# EAGLE library part 74AHC573 (library Labor)
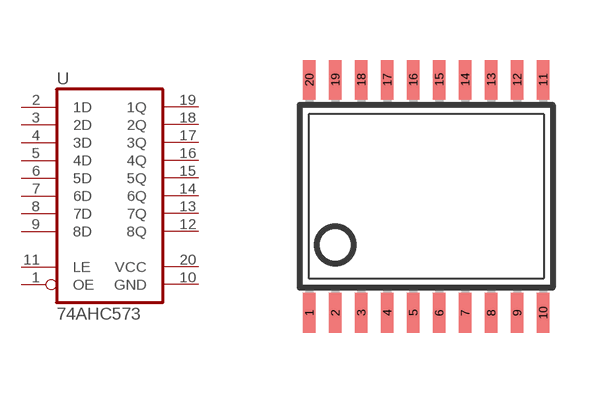
[diagram p12: symbol with the pads of TSSOP20; footprint TSSOP20]

Designator prefix -

## 74AHC573  [TSSOP20]
1  OE  in
2  1D  in
3  2D  in
4  3D  in
5  4D  in
6  5D  in
7  6D  in
8  7D  in
9  8D  in
10  GND
11  LE  in
12  8Q  hiz
13  7Q  hiz
14  6Q  hiz
15  5Q  hiz
16  4Q  hiz
17  3Q  hiz
18  2Q  hiz
19  1Q  hiz
20  VCC

## Footprint TSSOP20 (pad centres in mm)
Thin Shrink Small Outline Plastic 20 MAX3223-MAX3243.pdf
smd 0.305 x 0.991: 1 -2.925,-2.918; 2 -2.275,-2.918; 3 -1.625,-2.918; 4 -0.975,-2.918; 5 -0.325,-2.918; 6 0.325,-2.918; 7 0.975,-2.918; 8 1.625,-2.918; 9 2.275,-2.918; 10 2.925,-2.918; 11 2.925,2.918; 12 2.275,2.918; 13 1.625,2.918; 14 0.975,2.918; 15 0.325,2.918; 16 -0.325,2.918; 17 -0.975,2.918; 18 -1.625,2.918; 19 -2.275,2.918; 20 -2.925,2.918